# Altium footprint library PcbLib1.PcbLib: 24 footprints (part 2 of 2)
Each footprint in its own frame and in the unit in brackets; x right, y up, seen from the top. Pads: shape width x height; smd on the part's side, far side on the other; paste and mask are expansions set on the pad; w line width, h text height; cw(c..) or ccw(c..) is an arc to the next point about the centre after c.
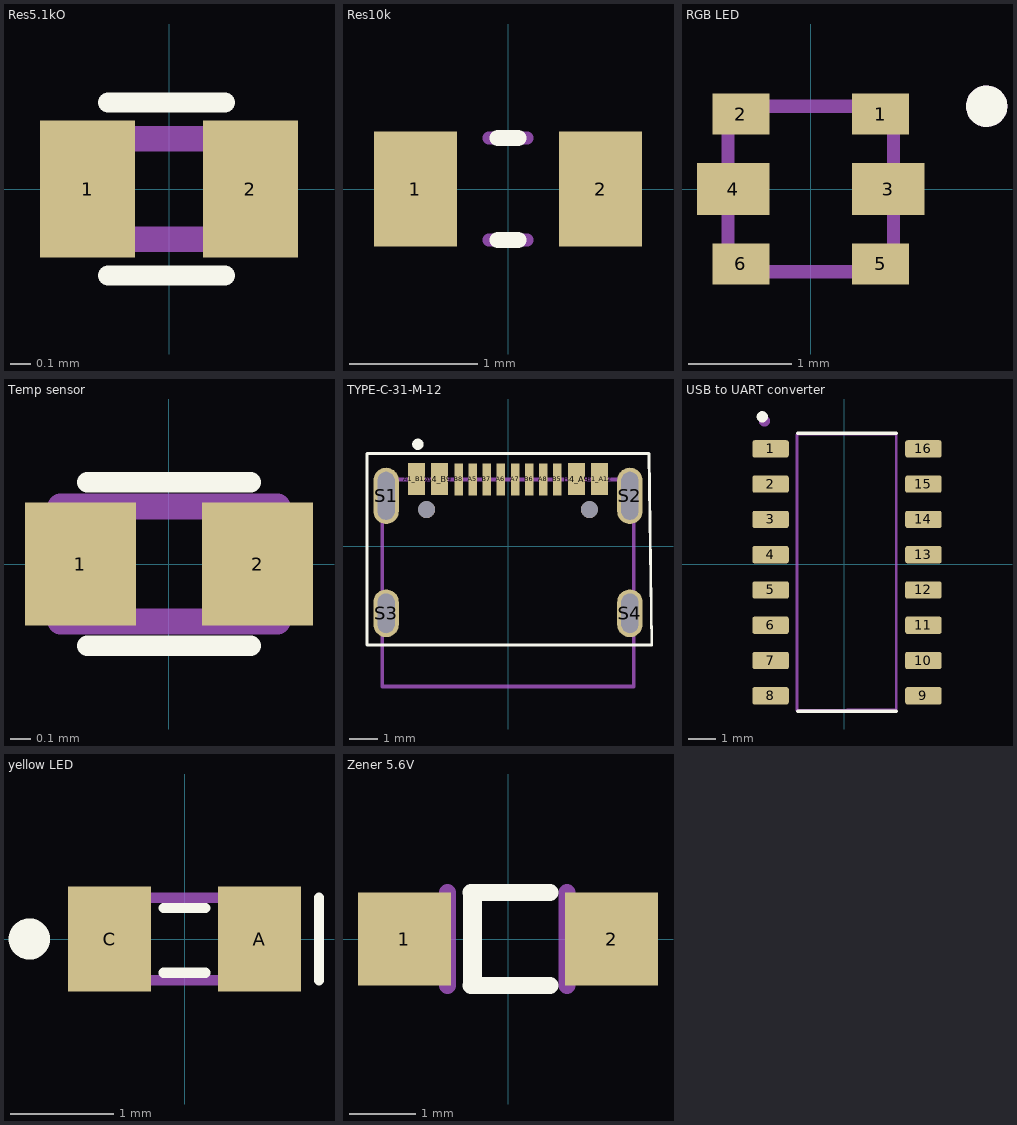
[diagram p1: the footprints below, top view; thin cyan lines are the x and y axes]

## Res5.1kO [mil] "100mW Thick Film Resistors ±5% ±200ppm/℃ 5.1kΩ 0402 Chip Resistor - Surface Mount ROHS"
height 13.78
pads (2):
  rect 18.7x27 smd: 1(-16,0) 2(16,0)
Top Overlay:
  lines w3.94: -12,-17 11,-17 ; -12,17 11,17
  text ".Designator" at -29,23.76 h20
Mechanical29 (Mech29):
  lines w5: -19.68,-9.84 -19.68,9.84 19.68,9.84 19.68,-9.84 -19.68,-9.84
  text ".Designator" at -22,19.76 h20
3D body "Res5.1kO_ERJ-2GEJ512X.STEP": height 13.78, standoff 0, extent -19.68,-9.84 19.68,9.84

## Res10k [mm] "100mW Thick Film Resistors ±100ppm/℃ ±1% 10kΩ 0603 Chip Resistor - Surface Mount ROHS"
pads (2):
  rect 0.65x0.9 smd: 1(-0.725,0) 2(0.725,0)
Top Overlay:
  lines w0.127: -0.08,-0.4 0.08,-0.4 ; -0.08,0.4 0.08,0.4
  text ".Designator" at -1.15,0.694 h0.5
Mechanical29 (Mech29):
  lines w0.1: -0.15,-0.4 0.15,-0.4 ; -0.15,0.4 0.15,0.4
  text ".Designator" at -0.925,0.594 h0.5
3D body "step_temp.STEP": height 0.45, standoff 0, extent -0.8,-0.4 0.8,0.4

## RGB LED [mm] "0606 RGB LEDs ROHS"
height 0.5
pads (6):
  rect 0.55x0.4 smd: 1(0.675,0.725) 2(-0.675,0.725) 5(0.675,-0.725) 6(-0.675,-0.725)
  rect 0.7x0.5 smd: 3(0.75,0) 4(-0.75,0)
Top Overlay:
  circle w0.2: c1.7,0.8 r0.1
  text ".Designator" at -1,1.295 h0.51
Mechanical29 (Mech29):
  circle w0.2: c1.7,0.8 r0.1
  lines w0.127: -0.8,-0.8 0.8,-0.8 0.8,0.8 -0.8,0.8 -0.8,-0.8
  text ".Designator" at -0.8,1.095 h0.51
3D body "step_temp.STEP": height 0.5, standoff 0, extent -0.8,-0.8 0.8,0.8

## Temp sensor [mm] "100kΩ 32uA ±0.5% 4250K ±0.5% 0402 NTC Thermistors ROHS"
pads (2):
  rect 0.54x0.6 smd: 1(-0.432,0) 2(0.432,0)
Top Overlay:
  lines w0.1: -0.4,-0.4 0.4,-0.4 ; -0.4,0.4 0.4,0.4
  text ".Designator" at -0.8,0.594 h0.5
Mechanical29 (Mech29):
  lines w0.127: -0.53,-0.28 -0.53,0.28 0.53,0.28 0.53,-0.28 -0.53,-0.28
  text ".Designator" at -0.7,0.519 h0.5
3D body "step_temp.STEP": height 0.55, standoff 0, extent -0.5,-0.25 0.5,0.25

## TYPE-C-31-M-12 [mm] "5A 1 16P Female Type-C SMD USB Connectors ROHS"
height 3.26
pads (18):
  rect 0.6x1.14 smd mask+0.05: A1_B12(-3.251,2.381) A4_B9(-2.438,2.381) B1_A12(3.251,2.381) B4_A9(2.438,2.381)
  rect 0.3x1.14 smd mask+0.05: A5(-1.25,2.369) A6(-0.25,2.369) A7(0.25,2.369) A8(1.25,2.369) B5(1.75,2.369) B6(0.75,2.369) B7(-0.75,2.369) B8(-1.75,2.369)
  oval 0.9x2 hole 0.6 slot 1.7 at 90 deg: S1(-4.325,1.789) S2(4.325,1.789)
  oval 0.9x1.7 hole 0.6 slot 1.4 at 90 deg: S3(-4.325,-2.381) S4(4.325,-2.381)
  round 0.6 hole 0.6 unplated: ""(-2.89,1.299) ""(2.89,1.299)
Top Overlay:
  circle w0.2: c-3.2,3.619 r0.1
  lines w0.1: -5,-3.506 -5,3.294 5,3.294 5.1,-3.506 -5,-3.506
  text ".Designator" at -2.677,-0.107 h1
Mechanical29 (Mech29):
  lines w0.127: -4.47,-4.981 4.47,-4.981 4.47,2.369 -4.47,2.369 -4.47,-4.981
3D body "TYPE-C-31-M-12--3DModel-STEP-56544.STEP": height 3.31, standoff -0.99, extent -4.47,-5.045 4.47,2.86

## USB to UART converter [mm] "2Mbps Transceiver USB 2.0 SOP-16 USB Converters ROHS"
pads (16):
  rrect25% 1.31x0.62 smd: 1(-2.65,4.145) 2(-2.65,2.875) 3(-2.65,1.605) 4(-2.65,0.335) 5(-2.65,-0.935) 6(-2.65,-2.205) 7(-2.65,-3.475) 8(-2.65,-4.745) 9(2.85,-4.745) 10(2.85,-3.475) 11(2.85,-2.205) 12(2.85,-0.935) 13(2.85,0.335) 14(2.85,1.605) 15(2.85,2.875) 16(2.85,4.145)
Top Overlay:
  circle w0.2: c-2.95,5.3 r0.1
  lines w0.127: -1.675,-5.3 1.875,-5.3 -1.675,-5.3 ; -1.675,4.7 1.875,4.7 -1.675,4.7
  text ".Designator" at -2.5,5.588 h1
Mechanical29 (Mech29):
  circle w0.2: c-2.875,5.15 r0.1
  lines w0.1: -1.7,-5.275 1.875,-5.225 1.875,4.675 -1.7,4.65 -1.7,-5.275
  text ".Designator" at -2,5.113 h1
3D body "USB to UART converter_CH340C--3DModel-STEP-1.STEP": height 1.8, standoff 0, extent -2.85,-5.3 3.15,4.7

## yellow LED [mm] "20mA 6mcd Colorless transparent lens -55℃~+85℃ 569nm Yellow Green 130° 100mW 2.1V 0603 LED Indication - Discrete ROHS"
height 9.78
pads (2):
  rect 0.8x1.016 smd: A(0.725,0) C(-0.725,0)
Top Overlay:
  circle w0.2: c-1.5,0 r0.1
  lines w0.1: -0.2,-0.325 0.2,-0.325 ; -0.2,0.3 0.2,0.3 ; 1.3,-0.4 1.3,0.4
  text ".Designator" at -1.2,0.812 h0.6
Mechanical29 (Mech29):
  circle w0.051: c-0.625,-0.35 r0.075
  region: -0.7,-0.451 -0.851,-0.451 -0.851,-0.25 -0.7,-0.25
  region: 0.85,0.25 0.35,0.25 0.35,0.45 0.85,0.45
  region: -0.55,-0.276 -0.601,-0.276 -0.601,-0.225 -0.55,-0.225
  region: 0.575,-0.275 0.35,-0.275 0.35,0.275 0.575,0.275
  region: -0.35,-0.45 -0.725,-0.45 -0.725,-0.4 -0.35,-0.4
  region: -0.551,0.25 -0.85,0.25 -0.85,0.451 -0.551,0.451
  region: 0.65,-0.275 0.55,-0.275 0.55,-0.175 0.65,-0.175
  region: 0.65,0.175 0.55,0.175 0.55,0.275 0.65,0.275
  region: -0.351,-0.451 -0.576,-0.451 -0.576,0.451 -0.351,0.451
  region: 0.851,-0.45 0.35,-0.45 0.35,-0.251 0.851,-0.251
  lines w0.051: 0.825,-0.275 cw(c0.825,0) 0.825,0.275
  lines w0.102: -0.8,-0.3 ccw(c-0.826,0) -0.8,0.3 ; -0.375,-0.4 0.35,-0.4 ; -0.35,0.4 0.35,0.4
  text ".Designator" at -1.016,0.62 h0.6
3D body "step_temp.STEP": height 0.8, standoff 0, extent -0.8,-0.4 0.8,0.4

## Zener 5.6V [mm] "Independent Type 5.2V~6V 500mW 5.6V SOD-123 Zener Diodes ROHS"
height 0.35
pads (2):
  rect 1.4x1.4 smd: 1(-1.562,0) 2(1.562,0)
Top Overlay:
  region: -0.394,-0.65 -0.673,-0.65 -0.673,0.7 -0.394,0.7
  lines w0.254: -0.563,-0.7 0.637,-0.7 ; -0.563,0.7 0.637,0.7
  text ".Designator" at -1.422,1.188 h0.51
Mechanical29 (Mech29):
  region: -1.013,-0.45 -1.763,-0.45 -1.763,0.4 -1.013,0.4
  region: 1.737,-0.45 0.987,-0.45 0.987,0.4 1.737,0.4
  lines w0.254: -0.913,-0.7 -0.913,0.7 ; 0.887,-0.7 0.887,0.7
  text ".Designator" at -1.041,1.01 h0.51
3D body "SOD123_DIO.step": height 0.81, standoff 0, extent -1.925,-0.675 1.925,0.675